# Altium schematic symbol library ChipResistors-1206-E24.SchLib: 2 symbols
Pins are listed as number, name and electrical type; pins without a type are passive.

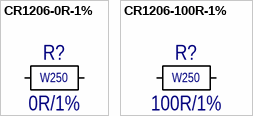
[diagram p0: symbols CR1206-0R-1% to CR1206-100R-1%]

## CR1206-0R-1%
designator R?  value 0R/1%  (hidden comment: *)
Film resistor SMD 0805
footprint SMD_RES_1206-L2000-W1250-H500 (Chip Resistor, 2-Leads, Body 3,15x1,60mm, IPC Medium Density)
pins: 1, 2
text: W250

## CR1206-100R-1%
designator R?  value 100R/1%  (hidden comment: *)
Film resistor SMD 0805
footprint SMD_RES_1206-L2000-W1250-H500 (Chip Resistor, 2-Leads, Body 3,15x1,60mm, IPC Medium Density)
pins: 1, 2
text: W250